# Altium footprint library Footprint.PcbLib: 1 footprints
Each footprint in its own frame and in the unit in brackets; x right, y up, seen from the top. Pads: shape width x height; smd on the part's side, far side on the other; paste and mask are expansions set on the pad; w line width, h text height; cw(c..) or ccw(c..) is an arc to the next point about the centre after c.
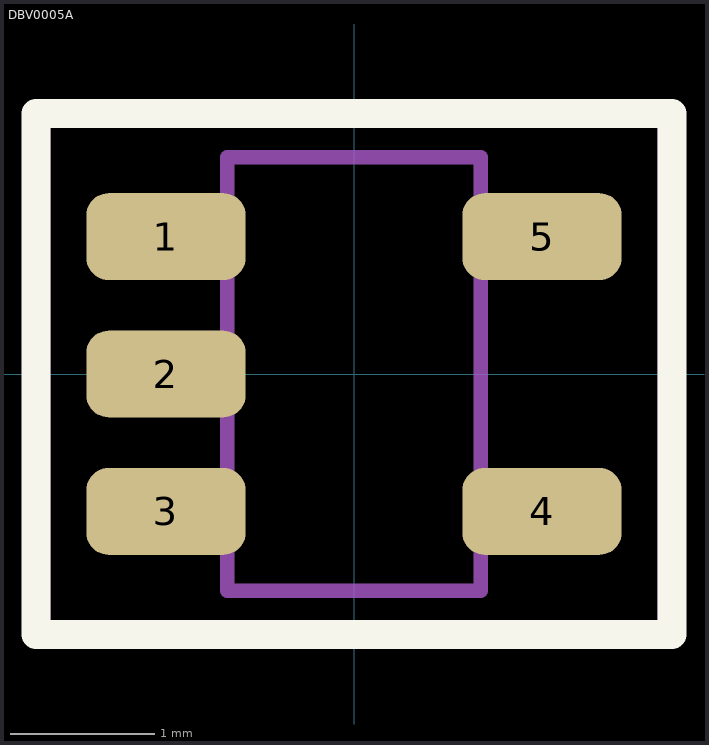
[diagram p0: the footprint, top view; thin cyan lines are the x and y axes]

## DBV0005A [mm] "SOT-23, 5-Leads, Body 3.00x1.75 mm, IPC Medium Density"
height 1.45
pads (5):
  rrect50% 1.1x0.6 smd mask+0.05: 1(-1.3,0.95) 2(-1.3,0) 3(-1.3,-0.95) 4(1.3,-0.95) 5(1.3,0.95)
Top Overlay:
  lines w0.2: -2.2,-1.8 2.2,-1.8 2.2,1.8 -2.2,1.8 -2.2,-1.8
Top Pattern:
  lines w0.1: -1.187,-1.175 -1.187,-0.725 ; -1.187,-0.225 -1.187,0.225 ; -1.187,0.725 -1.187,1.175 ; -0.875,-1.175 -1.5,-1.175 -1.5,-0.725 -0.875,-0.725 ; -0.875,-0.225 -1.5,-0.225 -1.5,0.225 -0.875,0.225 ; -0.875,0.725 -1.5,0.725 -1.5,1.175 -0.875,1.175 ; 0.875,-1.175 1.5,-1.175 1.5,-0.725 0.875,-0.725 ; 0.875,0.725 1.5,0.725 1.5,1.175 0.875,1.175 ; 1.187,-1.175 1.187,-0.725 ; 1.187,0.725 1.187,1.175 ; -0.875,-1.5 0.875,-1.5 0.875,1.5 -0.875,1.5 -0.875,-1.5
  text ".Designator" at -2.3,2.3 h1.52
Courtyard:
  lines w0.1: -2.15,-1.75 2.15,-1.75 2.15,1.75 -2.15,1.75 -2.15,-1.75
3D body "TPS763.step": height 1.45, standoff 0, extent -1.5,-1.5 1.5,1.5